# Altium schematic symbol library E2S_E2S_030_V1.SCHLIB: 1 symbol
Pins are listed as number, name and electrical type; pins without a type are passive.

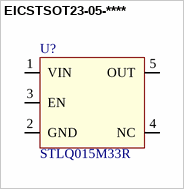
[diagram p0: symbol EICSTSOT23-05-****]

## EICSTSOT23-05-****
designator U?, comment value STLQ015M33R  (hidden comment: IC REG LINEAR 3.3V 150MA SOT23-5)
Internal Part Number: EICSTSOT23-05-****; Manufacturer: STMicroelectronics; Vendor Part Number: 497-15934-1-ND; Component Height (mm): 1.45mm; 2nd Auxiliary Field: 5.5V; 3rd Auxiliary Field: ROHS3 Compliant; Temp Co: -40°C ~ 125°C (TJ); Vendor Name: Digi-Key; 1st Auxiliary Field: 150mA; 4th Auxiliary Field: *; Manufacturer Part Number: STLQ015M33R; Part Type: IC REG LINEAR 3.3V 150MA SOT23-5
footprint SOT95P280X145-5N (SC189ZSKTRT, IC REG BUCK 3.3V 1.5A SYNC SOT23)
pins: 1 VIN, 2 GND, 3 EN (power), 4 NC, 5 OUT